# EAGLE library part LTC4412 (library LTC4412)
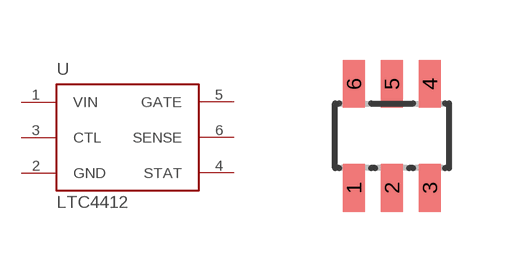
[diagram p0: symbol with the pads of SOT23-6L; footprint SOT23-6L]

Designator prefix -

## LTC4412  [SOT23-6L]
1  VIN
2  GND
3  CTL
4  STAT
5  GATE
6  SENSE

## Footprint SOT23-6L (pad centres in mm)
Small Outline Transistor package type OT
smd 0.55 x 1.2: 1 -0.95,-1.3; 2 0,-1.3; 3 0.95,-1.3; 4 0.95,1.3; 5 0,1.3; 6 -0.95,1.3